# Altium integrated library ALTIUM-WE-SLM-rev16a.IntLib: 6 symbols
Pins are listed as number, name and electrical type; pins without a type are passive.

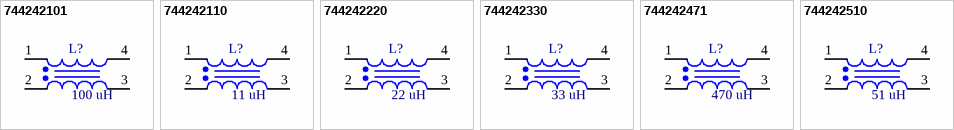
[diagram p0: symbols 744242101 to 744242510]

## 744242101
designator L?, comment 100 uH
WE-SLM SMD Common Mode Line Filter, 100 uH; PartNumber: 744242101; RatedCurrent: 300 mA; PublishedDate: Nov. 2016; Publisher: Wurth Elektronik; ComponentLink1Description: Manufacturer; ComponentLink1URL: http://www.we-online.de; ComponentLink2Description: Datasheet; ComponentLink2URL: http://katalog.we-online.de/pbs/datasheet/744242101.pdf; Value: 100 uH
footprint WE-SLM
pins: 1, 2, 3, 4

## 744242110
designator L?, comment 11 uH
WE-SLM SMD Common Mode Line Filter, 11 uH; PartNumber: 744242110; RatedCurrent: 300 mA; PublishedDate: Nov. 2016; Publisher: Wurth Elektronik; ComponentLink1Description: Manufacturer; ComponentLink1URL: http://www.we-online.de; ComponentLink2Description: Datasheet; ComponentLink2URL: http://katalog.we-online.de/pbs/datasheet/744242110.pdf; Value: 11 uH
footprint WE-SLM
pins: 1, 2, 3, 4

## 744242220
designator L?, comment 22 uH
WE-SLM SMD Common Mode Line Filter, 22 uH; PartNumber: 744242220; RatedCurrent: 300 mA; PublishedDate: Nov. 2016; Publisher: Wurth Elektronik; ComponentLink1Description: Manufacturer; ComponentLink1URL: http://www.we-online.de; ComponentLink2Description: Datasheet; ComponentLink2URL: http://katalog.we-online.de/pbs/datasheet/744242220.pdf; Value: 22 uH
footprint WE-SLM
pins: 1, 2, 3, 4

## 744242330
designator L?, comment 33 uH
WE-SLM SMD Common Mode Line Filter, 33 uH; PartNumber: 744242330; RatedCurrent: 300 mA; PublishedDate: Nov. 2016; Publisher: Wurth Elektronik; ComponentLink1Description: Manufacturer; ComponentLink1URL: http://www.we-online.de; ComponentLink2Description: Datasheet; ComponentLink2URL: http://katalog.we-online.de/pbs/datasheet/744242330.pdf; Value: 33 uH
footprint WE-SLM
pins: 1, 2, 3, 4

## 744242471
designator L?, comment 470 uH
WE-SLM SMD Common Mode Line Filter, 470 uH; PartNumber: 744242471; RatedCurrent: 400 mA; PublishedDate: Nov. 2016; Publisher: Wurth Elektronik; ComponentLink1Description: Manufacturer; ComponentLink1URL: http://www.we-online.de; ComponentLink2Description: Datasheet; ComponentLink2URL: http://katalog.we-online.de/pbs/datasheet/744242471.pdf; Value: 470 uH
footprint WE-SLM
pins: 1, 2, 3, 4

## 744242510
designator L?, comment 51 uH
WE-SLM SMD Common Mode Line Filter, 51 uH; PartNumber: 744242510; RatedCurrent: 400 mA; PublishedDate: Nov. 2016; Publisher: Wurth Elektronik; ComponentLink1Description: Manufacturer; ComponentLink1URL: http://www.we-online.de; ComponentLink2Description: Datasheet; ComponentLink2URL: http://katalog.we-online.de/pbs/datasheet/744242510.pdf; Value: 51 uH
footprint WE-SLM
pins: 1, 2, 3, 4